# EAGLE library part AP63301WU-7 (library diodes-inc-3a-switching-regulator-AP63301WU-7)
3.8V TO 32V INPUT, 3A LOW IQ SYNCHRONOUS BUCK WITH ENHANCED EMI REDUCTION. Source: Datasheet <https://www.diodes.com/assets/Datasheets/AP63300-AP63301.pdf>
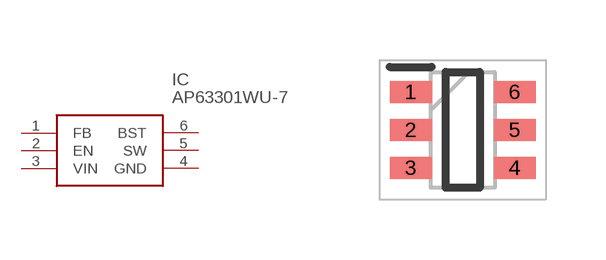
[diagram p0: symbol with the pads of SOT95P280X100-6N; footprint SOT95P280X100-6N]

Designator prefix IC

## AP63301WU-7 (Arrow_Part_Number: AP63301WU-7; Arrow_Price-Stock: https://www.arrow.com/en/products/ap63301wu-7/diodes-incorporated?region=nac; Description: 3.8V TO 32V INPUT, 3A LOW IQ SYNCHRONOUS BUCK WITH ENHANCED EMI REDUCTION.; Height: 1mm; Manufacturer_Name: Diodes Inc.; Manufacturer_Part_Number: AP63301WU-7; Mouser_Part_Number: 621-AP63301WU-7; Mouser_Price-Stock: https://www.mouser.co.uk/ProductDetail/Diodes-Incorporated/AP63301WU-7?qs=bZr6mbWTK5mxozg17S0lNg%3D%3D)  [SOT95P280X100-6N]
1  FB
2  EN
3  VIN
4  GND
5  SW
6  BST

## Footprint SOT95P280X100-6N (pad centres in mm)
TSOT26_
smd 1.05 x 0.55: 1 -1.3,0.95; 2 -1.3,0; 3 -1.3,-0.95; 4 1.3,-0.95; 5 1.3,0; 6 1.3,0.95